# EAGLE library part ESD110 (library sena_technology-bluetooth)
ESD110 Blue-Tooth Module
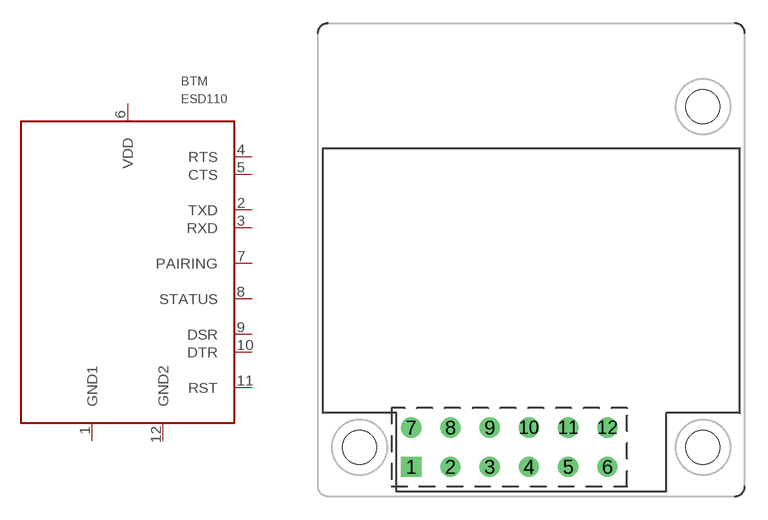
[diagram p1: symbol with the pads of ESD110; footprint ESD110]

Designator prefix BTM

## ESD110ESD110  [ESD110]
1  GND1  pas
2  TXD  pas
3  RXD  pas
4  RTS  pas
5  CTS  pas
6  VDD  pas
7  PAIRING  pas
8  STATUS  pas
9  DSR  pas
10  DTR  pas
11  RST  pas
12  GND2  pas

## Footprint ESD110 (pad centres in mm)
ESD110 Blue-Tooth Module
drill 0.8 square: 1 0,0
drill 0.8 round: 2 2.54,0; 3 5.08,0; 4 7.62,0; 5 10.16,0; 6 12.7,0; 7 0,2.54; 8 2.54,2.54; 9 5.08,2.54; 10 7.62,2.54; 11 10.16,2.54; 12 12.7,2.54
hole 2.2 at 18.891,23.336
hole 2.2 at 18.891,1.27
hole 2.2 at -3.334,1.27